# Altium footprint library EMRT MAIN CONTROLLER.PcbLib: 35 footprints (part 2 of 3)
Each footprint in its own frame and in the unit in brackets; x right, y up, seen from the top. Pads: shape width x height; smd on the part's side, far side on the other; paste and mask are expansions set on the pad; w line width, h text height; cw(c..) or ccw(c..) is an arc to the next point about the centre after c.
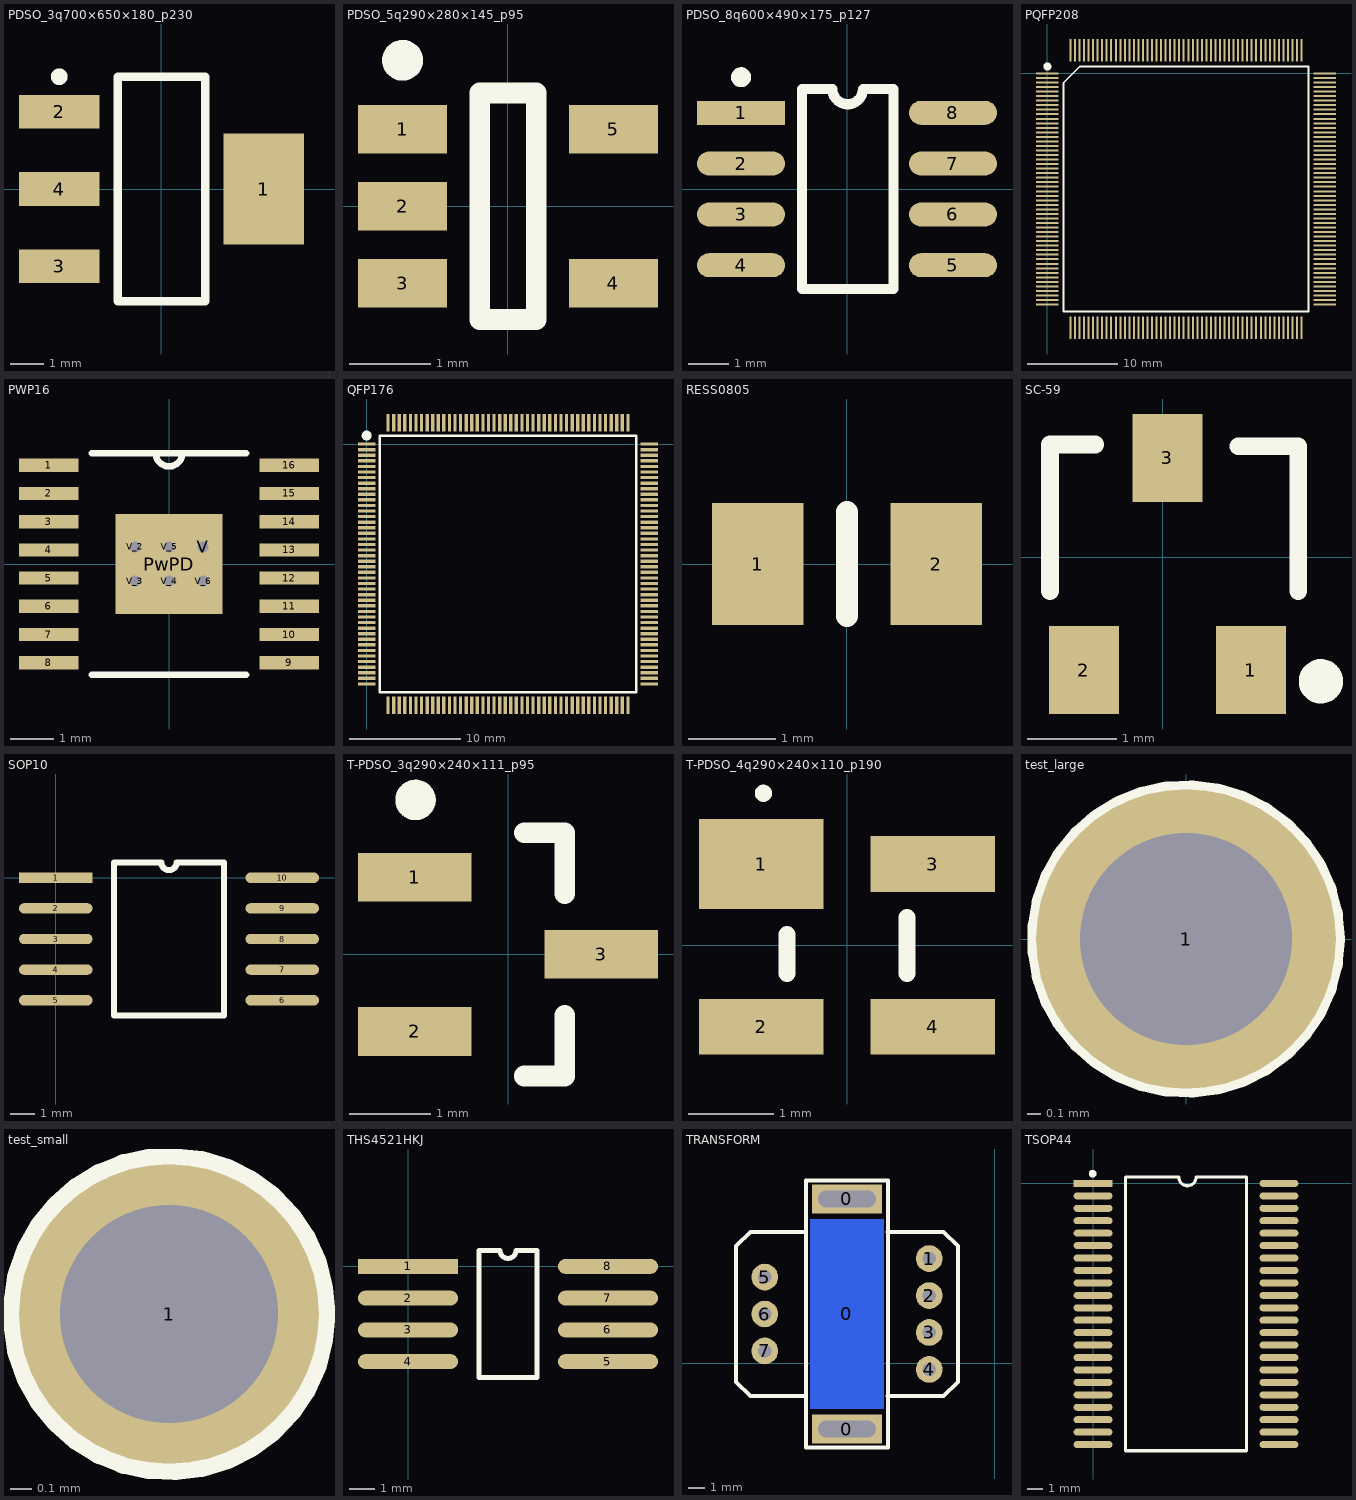
[diagram p1: the footprints below, top view; thin cyan lines are the x and y axes]

## PDSO_3q700×650×180_p230 [mm] "SOT223, 4-Leads, Body 6.7x7.3mm (max), Pitch 2.30mm, IPC Medium Density"
height 1.8
pads (4):
  rect 2.4x3.3 smd: 1(3.05,0)
  rect 2.4x1 smd: 2(-3.05,2.3) 3(-3.05,-2.3) 4(-3.05,0)
Top Overlay:
  circle w0.25: c-3.05,3.35 r0.125
  lines w0.254: -1.3,-3.35 -1.3,3.35 1.3,3.35 1.3,-3.35 -1.3,-3.35
3D body: height 1.68, standoff 0, extent -3.734,-3.25 3.226,3.25

## PDSO_5q290×280×145_p95 [mm]
height 1.45
pads (5):
  rect 1.1x0.6 smd: 1(-1.3,0.95) 2(-1.3,0) 3(-1.3,-0.95) 4(1.3,-0.95) 5(1.3,0.95)
Top Overlay:
  circle w0.254: c-1.3,1.8 r0.125
  lines w0.254: -0.349,-1.397 0.349,-1.397 0.349,1.397 -0.349,1.397 -0.349,-1.397
3D body: height 1.08, standoff -0.01, extent -1.422,-1.461 1.423,1.46

## PDSO_8q600×490×175_p127 [mm]
pads (8):
  rect 2.2x0.6 smd: 1(-2.65,1.905)
  oval 2.2x0.6 smd: 2(-2.65,0.635) 3(-2.65,-0.635) 4(-2.65,-1.905) 5(2.65,-1.905) 6(2.65,-0.635) 7(2.65,0.635) 8(2.65,1.905)
Top Overlay:
  circle w0.25: c-2.648,2.794 r0.125
  lines w0.254: -1.126,-2.5 -1.126,2.5 -0.364,2.5 ccw(c0.017,2.5) 0.398,2.5 1.16,2.5 1.16,-2.5 -1.126,-2.5
3D body: height 1.63, standoff 0, extent -3,-2.45 3,2.45

## PQFP208 [mm]
pads (208):
  oval 2.5x0.22 smd: 1(0,0)
  rect 2.5x0.22 smd: 2(0,-0.5) 3(0,-1) 4(0,-1.5) 5(0,-2) 6(0,-2.5) 7(0,-3) 8(0,-3.5) 9(0,-4) 10(0,-4.5) 11(0,-5) 12(0,-5.5) 13(0,-6) 14(0,-6.5) 15(0,-7) 16(0,-7.5) 17(0,-8) 18(0,-8.5) 19(0,-9) 20(0,-9.5) 21(0,-10) 22(0,-10.5) 23(0,-11) 24(0,-11.5) 25(0,-12) 26(0,-12.5) 27(0,-13) 28(0,-13.5) 29(0,-14) 30(0,-14.5) 31(0,-15) 32(0,-15.5) 33(0,-16) 34(0,-16.5) 35(0,-17) 36(0,-17.5) 37(0,-18) 38(0,-18.5) 39(0,-19) 40(0,-19.5) 41(0,-20) 42(0,-20.5) 43(0,-21) 44(0,-21.5) 45(0,-22) 46(0,-22.5) 47(0,-23) 48(0,-23.5) 49(0,-24) 50(0,-24.5) 51(0,-25) 52(0,-25.5) 105(30.6,-25.5) 106(30.6,-25) 107(30.6,-24.5) 108(30.6,-24) 109(30.6,-23.5) 110(30.6,-23) 111(30.6,-22.5) 112(30.6,-22) 113(30.6,-21.5) 114(30.6,-21) 115(30.6,-20.5) 116(30.6,-20) 117(30.6,-19.5) 118(30.6,-19) 119(30.6,-18.5) 120(30.6,-18) 121(30.6,-17.5) 122(30.6,-17) 123(30.6,-16.5) 124(30.6,-16) 125(30.6,-15.5) 126(30.6,-15) 127(30.6,-14.5) 128(30.6,-14) 129(30.6,-13.5) 130(30.6,-13) 131(30.6,-12.5) 132(30.6,-12) 133(30.6,-11.5) 134(30.6,-11) 135(30.6,-10.5) 136(30.6,-10) 137(30.6,-9.5) 138(30.6,-9) 139(30.6,-8.5) 140(30.6,-8) 141(30.6,-7.5) 142(30.6,-7) 143(30.6,-6.5) 144(30.6,-6) 145(30.6,-5.5) 146(30.6,-5) 147(30.6,-4.5) 148(30.6,-4) 149(30.6,-3.5) 150(30.6,-3) 151(30.6,-2.5) 152(30.6,-2) 153(30.6,-1.5) 154(30.6,-1) 155(30.6,-0.5) 156(30.6,0)
  rect 0.22x2.5 smd: 53(2.55,-28.05) 54(3.05,-28.05) 55(3.55,-28.05) 56(4.05,-28.05) 57(4.55,-28.05) 58(5.05,-28.05) 59(5.55,-28.05) 60(6.05,-28.05) 61(6.55,-28.05) 62(7.05,-28.05) 63(7.55,-28.05) 64(8.05,-28.05) 65(8.55,-28.05) 66(9.05,-28.05) 67(9.55,-28.05) 68(10.05,-28.05) 69(10.55,-28.05) 70(11.05,-28.05) 71(11.55,-28.05) 72(12.05,-28.05) 73(12.55,-28.05) 74(13.05,-28.05) 75(13.55,-28.05) 76(14.05,-28.05) 77(14.55,-28.05) 78(15.05,-28.05) 79(15.55,-28.05) 80(16.05,-28.05) 81(16.55,-28.05) 82(17.05,-28.05) 83(17.55,-28.05) 84(18.05,-28.05) 85(18.55,-28.05) 86(19.05,-28.05) 87(19.55,-28.05) 88(20.05,-28.05) 89(20.55,-28.05) 90(21.05,-28.05) 91(21.55,-28.05) 92(22.05,-28.05) 93(22.55,-28.05) 94(23.05,-28.05) 95(23.55,-28.05) 96(24.05,-28.05) 97(24.55,-28.05) 98(25.05,-28.05) 99(25.55,-28.05) 100(26.05,-28.05) 101(26.55,-28.05) 102(27.05,-28.05) 103(27.55,-28.05) 104(28.05,-28.05) 157(28.05,2.55) 158(27.55,2.55) 159(27.05,2.55) 160(26.55,2.55) 161(26.05,2.55) 162(25.55,2.55) 163(25.05,2.55) 164(24.55,2.55) 165(24.05,2.55) 166(23.55,2.55) 167(23.05,2.55) 168(22.55,2.55) 169(22.05,2.55) 170(21.55,2.55) 171(21.05,2.55) 172(20.55,2.55) 173(20.05,2.55) 174(19.55,2.55) 175(19.05,2.55) 176(18.55,2.55) 177(18.05,2.55) 178(17.55,2.55) 179(17.05,2.55) 180(16.55,2.55) 181(16.05,2.55) 182(15.55,2.55) 183(15.05,2.55) 184(14.55,2.55) 185(14.05,2.55) 186(13.55,2.55) 187(13.05,2.55) 188(12.55,2.55) 189(12.05,2.55) 190(11.55,2.55) 191(11.05,2.55) 192(10.55,2.55) 193(10.05,2.55) 194(9.55,2.55) 195(9.05,2.55) 196(8.55,2.55) 197(8.05,2.55) 198(7.55,2.55) 199(7.05,2.55) 200(6.55,2.55) 201(6.05,2.55) 202(5.55,2.55) 203(5.05,2.55) 204(4.55,2.55) 205(4.05,2.55) 206(3.55,2.55) 207(3.05,2.55) 208(2.55,2.55)
Top Overlay:
  circle w0.635: c0,0.762 r0.125
  lines w0.2: 1.785,-26.265 28.815,-26.265 28.815,0.765 3.57,0.765 1.785,-1.02 1.785,-26.265

## PWP16 [mil]
height 47
pads (23):
  rect 54x12 smd: 1(-109,89.57) 2(-109,63.98) 3(-109,38.39) 4(-109,12.8) 5(-109,-12.8) 6(-109,-38.39) 7(-109,-63.98) 8(-109,-89.57) 9(109,-89.57) 10(109,-63.98) 11(109,-38.39) 12(109,-12.8) 13(109,12.8) 14(109,38.39) 15(109,63.98) 16(109,89.57)
  rect 96.85x90.94 smd paste-47.93 mask-47.93: PwPD(0,0)
  round 20 / inner round 60 / far side round 20 hole 10: V(31,15.5) V_2(-31,15.5) V_3(-31,-15.5) V_4(0,-15.5) V_5(0,15.5) V_6(31,-15.5)
Top Overlay:
  lines w6: -69.86,-100.5 69.86,-100.5 ; -69.86,100.5 69.86,100.5 ; -12,100.5 ccw(c0,100.5) 12,100.5
Top Paste:
  region: 45.48,-19.44 40.5,-19.44 34.94,-25 34.94,-42.52 45.48,-42.52
  region: 45.48,11.56 40.5,11.56 34.94,6 34.94,-6 40.5,-11.56 45.48,-11.56
  region: 45.48,42.52 34.94,42.52 34.94,25 40.5,19.44 45.48,19.44
  region: 21.5,-19.44 9.5,-19.44 3.94,-25 3.94,-42.52 27.06,-42.52 27.06,-25
  region: 21.5,11.56 9.5,11.56 3.94,6 3.94,-6 9.5,-11.56 21.5,-11.56 27.06,-6 27.06,6
  region: 27.06,42.52 3.94,42.52 3.94,25 9.5,19.44 21.5,19.44 27.06,25
  region: -9.5,-19.44 -21.5,-19.44 -27.06,-25 -27.06,-42.52 -3.94,-42.52 -3.94,-25
  region: -9.5,11.56 -21.5,11.56 -27.06,6 -27.06,-6 -21.5,-11.56 -9.5,-11.56 -3.94,-6 -3.94,6
  region: -3.94,42.52 -27.06,42.52 -27.06,25 -21.5,19.44 -9.5,19.44 -3.94,25
  region: -40.5,-19.44 -45.48,-19.44 -45.48,-42.52 -34.94,-42.52 -34.94,-25
  region: -40.5,11.56 -45.48,11.56 -45.48,-11.56 -40.5,-11.56 -34.94,-6 -34.94,6
  region: -34.94,42.52 -45.48,42.52 -45.48,19.44 -40.5,19.44 -34.94,25
Top Solder:
  region: 38.87,-47.97 38.87,47.97 50.93,47.97 50.93,-47.97
  region: 23.13,-47.97 23.13,47.97 7.87,47.97 7.87,-47.97
  region: -7.87,-47.97 -7.87,47.97 -23.13,47.97 -23.13,-47.97
  region: -50.93,-47.97 -50.93,47.97 -38.87,47.97 -38.87,-47.97
  region: -50.93,-47.97 -50.93,-23.37 50.93,-23.37 50.93,-47.97
  region: -50.93,-7.63 -50.93,7.63 50.93,7.63 50.93,-7.63
  region: -50.93,23.37 -50.93,47.97 50.93,47.97 50.93,23.37

## QFP176 [mm]
pads (176):
  rect 1.55x0.292 smd: 1(0,0) 2(0,-0.5) 3(0,-1) 4(0,-1.5) 5(0,-2) 6(0,-2.5) 7(0,-3) 8(0,-3.5) 9(0,-4) 10(0,-4.5) 11(0,-5) 12(0,-5.5) 13(0,-6) 14(0,-6.5) 15(0,-7) 16(0,-7.5) 17(0,-8) 18(0,-8.5) 19(0,-9) 20(0,-9.5) 21(0,-10) 22(0,-10.5) 23(0,-11) 24(0,-11.5) 25(0,-12) 26(0,-12.5) 27(0,-13) 28(0,-13.5) 29(0,-14) 30(0,-14.5) 31(0,-15) 32(0,-15.5) 33(0,-16) 34(0,-16.5) 35(0,-17) 36(0,-17.5) 37(0,-18) 38(0,-18.5) 39(0,-19) 40(0,-19.5) 41(0,-20) 42(0,-20.5) 43(0,-21) 44(0,-21.5) 89(25.35,-21.5) 90(25.35,-21) 91(25.35,-20.5) 92(25.35,-20) 93(25.35,-19.5) 94(25.35,-19) 95(25.35,-18.5) 96(25.35,-18) 97(25.35,-17.5) 98(25.35,-17) 99(25.35,-16.5) 100(25.35,-16) 101(25.35,-15.5) 102(25.35,-15) 103(25.35,-14.5) 104(25.35,-14) 105(25.35,-13.5) 106(25.35,-13) 107(25.35,-12.5) 108(25.35,-12) 109(25.35,-11.5) 110(25.35,-11) 111(25.35,-10.5) 112(25.35,-10) 113(25.35,-9.5) 114(25.35,-9) 115(25.35,-8.5) 116(25.35,-8) 117(25.35,-7.5) 118(25.35,-7) 119(25.35,-6.5) 120(25.35,-6) 121(25.35,-5.5) 122(25.35,-5) 123(25.35,-4.5) 124(25.35,-4) 125(25.35,-3.5) 126(25.35,-3) 127(25.35,-2.5) 128(25.35,-2) 129(25.35,-1.5) 130(25.35,-1) 131(25.35,-0.5) 132(25.35,0)
  rect 0.292x1.55 smd: 45(1.925,-23.425) 46(2.425,-23.425) 47(2.925,-23.425) 48(3.425,-23.425) 49(3.925,-23.425) 50(4.425,-23.425) 51(4.925,-23.425) 52(5.425,-23.425) 53(5.925,-23.425) 54(6.425,-23.425) 55(6.925,-23.425) 56(7.425,-23.425) 57(7.925,-23.425) 58(8.425,-23.425) 59(8.925,-23.425) 60(9.425,-23.425) 61(9.925,-23.425) 62(10.425,-23.425) 63(10.925,-23.425) 64(11.425,-23.425) 65(11.925,-23.425) 66(12.425,-23.425) 67(12.925,-23.425) 68(13.425,-23.425) 69(13.925,-23.425) 70(14.425,-23.425) 71(14.925,-23.425) 72(15.425,-23.425) 73(15.925,-23.425) 74(16.425,-23.425) 75(16.925,-23.425) 76(17.425,-23.425) 77(17.925,-23.425) 78(18.425,-23.425) 79(18.925,-23.425) 80(19.425,-23.425) 81(19.925,-23.425) 82(20.425,-23.425) 83(20.925,-23.425) 84(21.425,-23.425) 85(21.925,-23.425) 86(22.425,-23.425) 87(22.925,-23.425) 88(23.425,-23.425) 133(23.425,1.925) 134(22.925,1.925) 135(22.425,1.925) 136(21.925,1.925) 137(21.425,1.925) 138(20.925,1.925) 139(20.425,1.925) 140(19.925,1.925) 141(19.425,1.925) 142(18.925,1.925) 143(18.425,1.925) 144(17.925,1.925) 145(17.425,1.925) 146(16.925,1.925) 147(16.425,1.925) 148(15.925,1.925) 149(15.425,1.925) 150(14.925,1.925) 151(14.425,1.925) 152(13.925,1.925) 153(13.425,1.925) 154(12.925,1.925) 155(12.425,1.925) 156(11.925,1.925) 157(11.425,1.925) 158(10.925,1.925) 159(10.425,1.925) 160(9.925,1.925) 161(9.425,1.925) 162(8.925,1.925) 163(8.425,1.925) 164(7.925,1.925) 165(7.425,1.925) 166(6.925,1.925) 167(6.425,1.925) 168(5.925,1.925) 169(5.425,1.925) 170(4.925,1.925) 171(4.425,1.925) 172(3.925,1.925) 173(3.425,1.925) 174(2.925,1.925) 175(2.425,1.925) 176(1.925,1.925)
Top Overlay:
  circle w0.635: c0,0.762 r0.125
  lines w0.2: 1.175,-22.25 1.175,0.75 24.175,0.75 24.175,-22.25 1.175,-22.25

## RESS0805 [mm]
height 0.457
pads (2):
  rect 1.05x1.4 smd: 1(-1.025,0) 2(1.025,0)
Top Overlay:
  lines w0.254: 0,-0.6 0,0.6
3D body: height 0.45, standoff 0, extent -1,-0.625 1,0.625

## SC-59 [mil]
height 42.91
pads (3):
  rect 31x39 smd: 1(39,-50) 2(-35,-50) 3(2,44)
Top Overlay:
  circle w9.84: c70.08,-55 r4.92
  lines w7.87: -50,-15 -50,50 -30,50 ; 33.46,49.21 60,49.21 60,-15

## SOP10 [mil]
height 20
pads (10):
  rect 120x17 smd: 1(0,0)
  oval 120x17 smd: 2(0,-50) 3(0,-100) 4(0,-150) 5(0,-200) 6(370,-200) 7(370,-150) 8(370,-100) 9(370,-50) 10(370,0)
Top Overlay:
  lines w10: 95,-225 275,-225 275,25 197.5,25 cw(c185,25) 172.5,25 95,25 95,-225

## T-PDSO_3q290×240×111_p95 [mm] "SOT23, 3-Leads, Body 3.0x2.5mm (max), Pitch 0.95mm, IPC Medium Density"
height 1.1
pads (3):
  rect 1.4x0.6 smd: 1(-1.15,0.95) 2(-1.15,-0.95) 3(1.15,0)
Top Overlay:
  circle w0.25: c-1.141,1.905 r0.125
  lines w0.254: 0.2,-1.5 0.7,-1.5 0.7,-0.75 ; 0.2,1.5 0.7,1.5 0.7,0.75
3D body: height 1.2, standoff 0, extent -1.679,-1.488 1.121,1.412

## T-PDSO_4q290×240×110_p190 [mm] "SOT143, 4-Leads, Body 2.93x2.38mm, Pitch 1.90mm, IPC Medium Density"
height 1.1
pads (4):
  rect 1.45x1.05 smd: 1(-1,0.95)
  rect 1.45x0.65 smd: 2(-1,-0.95) 3(1,0.95) 4(1,-0.95)
Top Overlay:
  circle w0.1: c-0.975,1.775 r0.05
  lines w0.2: -0.7,-0.325 -0.7,0.125 ; 0.7,-0.325 0.7,0.325

## test_large [mil]
pads (1):
  round 85 hole 60: 1(0,0)
Top Overlay:
  circle w10: c0,0 r40

## test_small [mil]
pads (1):
  round 55 hole 40: 1(0,0)
Top Overlay:
  circle w6: c0,0 r27.5

## THS4521HKJ [mm]
height 0.508
pads (8):
  rect 4x0.6 smd: 1(0,0)
  oval 4x0.6 smd: 2(0,-1.27) 3(0,-2.54) 4(0,-3.81) 5(8,-3.81) 6(8,-2.54) 7(8,-1.27) 8(8,0)
Top Overlay:
  lines w0.2: 2.835,-4.445 5.165,-4.445 5.165,0.635 4.317,0.635 cw(c4,0.635) 3.682,0.635 2.835,0.635 2.835,-4.445

## TRANSFORM [mil]
pads (10):
  rect 170x70 hole 40 slot 140 at 0 deg: 0(-360,-160) 0(-360,400)
  rect 180x460 smd far side: 0(-360,120)
  round 65 hole 32: 1(-160,255) 2(-160,165) 3(-160,75) 4(-160,-15) 5(-560,210) 6(-560,120) 7(-560,30)
Top Overlay:
  lines w10: -461,-80 -595,-80 -630,-45 -630,285 -595,320 -461,320 ; -261,-80 -125,-80 -90,-45 -90,285 -125,320 -261,320 ; -460,-205 -460,445 -260,445 -260,-205 -460,-205

## TSOP44 [mm]
pads (44):
  rect 2.5x0.45 smd: 1(0,0)
  oval 2.5x0.45 smd: 2(0,-0.8) 3(0,-1.6) 4(0,-2.4) 5(0,-3.2) 6(0,-4) 7(0,-4.8) 8(0,-5.6) 9(0,-6.4) 10(0,-7.2) 11(0,-8) 12(0,-8.8) 13(0,-9.6) 14(0,-10.4) 15(0,-11.2) 16(0,-12) 17(0,-12.8) 18(0,-13.6) 19(0,-14.4) 20(0,-15.2) 21(0,-16) 22(0,-16.8) 23(11.96,-16.8) 24(11.96,-16) 25(11.96,-15.2) 26(11.96,-14.4) 27(11.96,-13.6) 28(11.96,-12.8) 29(11.96,-12) 30(11.96,-11.2) 31(11.96,-10.4) 32(11.96,-9.6) 33(11.96,-8.8) 34(11.96,-8) 35(11.96,-7.2) 36(11.96,-6.4) 37(11.96,-5.6) 38(11.96,-4.8) 39(11.96,-4) 40(11.96,-3.2) 41(11.96,-2.4) 42(11.96,-1.6) 43(11.96,-0.8) 44(11.96,0)
Top Overlay:
  circle w0.25: c-0.025,0.625 r0.125
  lines w0.198: 2.085,0.4 5.518,0.4 ; 6.625,0.4 9.875,0.4
  lines w0.2: 2.085,0.4 2.085,-17.2 9.875,-17.2 9.875,0.4 ; 5.518,0.4 ccw(c6.072,0.4) 6.625,0.4